# EAGLE library part EPG.1B.302.HLN (library lplemo)
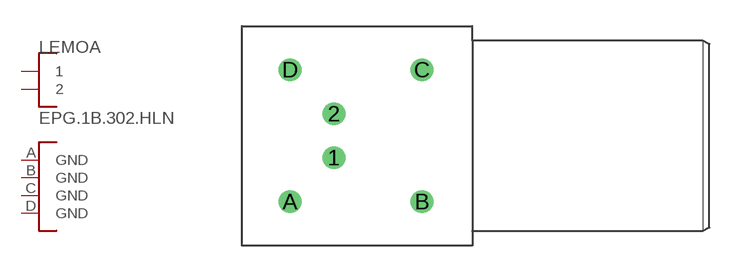
[diagram p10: symbol with the pads of P19-EPG-EXG-1B.302; footprint P19-EPG-EXG-1B.302]

Designator prefix LEMO; gates A=C2 B=GND4

## EPG.1B.302.HLN  [P19-EPG-EXG-1B.302]
1  A:1
2  A:2
A  B:GND  pwr
B  B:GND  pwr
C  B:GND  pwr
D  B:GND  pwr

## Footprint P19-EPG-EXG-1B.302 (pad centres in mm)
drill 0.8 round: 1 -5.08,-1.27; 2 -5.08,1.27; A -7.62,-3.81; B 0,-3.81; C 0,3.81; D -7.62,3.81